# Altium schematic symbol library DD.Schlib: 1 symbol
Pins are listed as number, name and electrical type; pins without a type are passive.

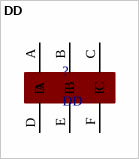
[diagram p0: symbol DD]

## DD
designator ?
footprint DD
pins: A, B, C, D, E, F